# EAGLE library part HARTING_15120402601333 (library harting-flex)
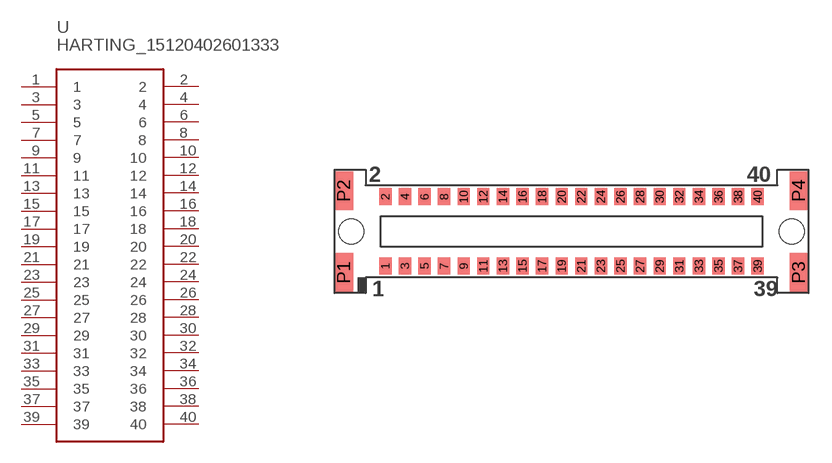
[diagram p1: symbol with the pads of HARTING_15120402601333; footprint HARTING_15120402601333]

Designator prefix -

## HARTING_15120402601333  [HARTING_15120402601333]
1  1
2  2
3  3
4  4
5  5
6  6
7  7
8  8
9  9
10  10
11  11
12  12
13  13
14  14
15  15
16  16
17  17
18  18
19  19
20  20
21  21
22  22
23  23
24  24
25  25
26  26
27  27
28  28
29  29
30  30
31  31
32  32
33  33
34  34
35  35
36  36
37  37
38  38
39  39
40  40

## Footprint HARTING_15120402601333 (pad centres in mm)
smd 0.8 x 1.1: 1 -12.065,-2.25; 2 -12.065,2.25; 3 -10.795,-2.25; 4 -10.795,2.25; 5 -9.525,-2.25; 6 -9.525,2.25; 7 -8.255,-2.25; 8 -8.255,2.25; 9 -6.985,-2.25; 10 -6.985,2.25; 11 -5.715,-2.25; 12 -5.715,2.25; 13 -4.445,-2.25; 14 -4.445,2.25; 15 -3.175,-2.25; 16 -3.175,2.25; 17 -1.905,-2.25; 18 -1.905,2.25; 19 -0.635,-2.25; 20 -0.635,2.25; 21 0.635,-2.25; 22 0.635,2.25; 23 1.905,-2.25; 24 1.905,2.25; 25 3.175,-2.25; 26 3.175,2.25; 27 4.445,-2.25; 28 4.445,2.25; 29 5.715,-2.25; 30 5.715,2.25; 31 6.985,-2.25; 32 6.985,2.25; 33 8.255,-2.25; 34 8.255,2.25; 35 9.525,-2.25; 36 9.525,2.25; 37 10.795,-2.25; 38 10.795,2.25; 39 12.065,-2.25; 40 12.065,2.25
smd 1.2 x 2.5: P1 -14.74,-2.65; P2 -14.74,2.65; P3 14.74,-2.65; P4 14.74,2.65
hole 1.6 at -14.275,0
hole 1.6 at 14.275,0